# Altium footprint library 2007254-1.PcbLib: 1 footprints
Each footprint in its own frame and in the unit in brackets; x right, y up, seen from the top. Pads: shape width x height; smd on the part's side, far side on the other; paste and mask are expansions set on the pad; w line width, h text height; cw(c..) or ccw(c..) is an arc to the next point about the centre after c.
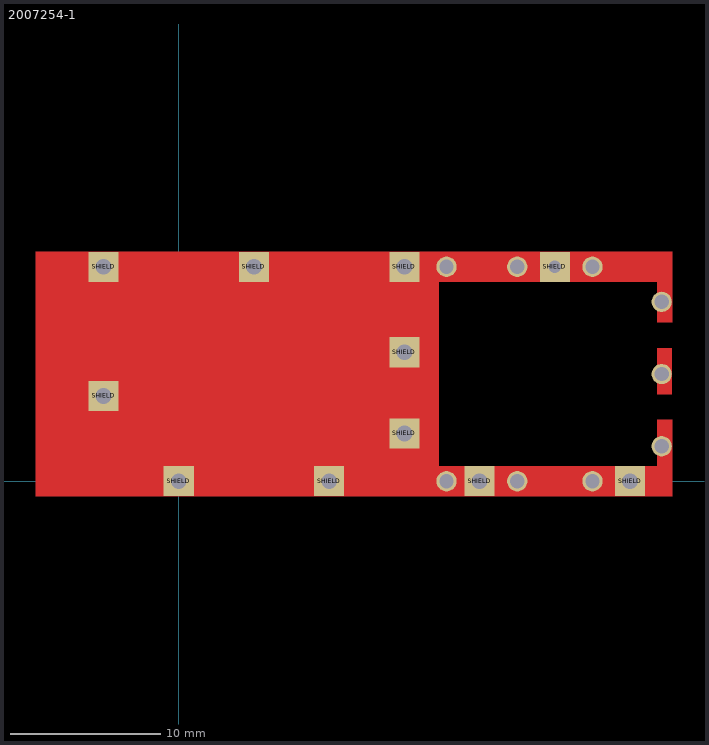
[diagram p0: the footprint, top view; thin cyan lines are the x and y axes]

## 2007254-1 [mm] "1x1 sfp cage with light pipes"
height 10
pads (20):
  rect 2x2 hole 1.05: SHIELD(-5,5.67) SHIELD(-5,14.25) SHIELD(0,0) SHIELD(5,14.25) SHIELD(10,0) SHIELD(15,3.17) SHIELD(15,8.57) SHIELD(15,14.25) SHIELD(20,0) SHIELD(30,0)
  round 1.35 hole 0.95: SHIELD(17.8,0) SHIELD(17.8,14.25) SHIELD(22.5,0) SHIELD(22.5,14.25) SHIELD(27.5,0) SHIELD(27.5,14.25) SHIELD(32.1,2.32) SHIELD(32.1,7.12) SHIELD(32.1,11.92)
  rect 2x2 hole 0.85: SHIELD(25,14.25)
Top Layer:
  rectangle: 31.799,5.77 32.799,8.87
  region: -9.5,15.25 -9.5,-1 32.8,-1 32.8,4.07 31.8,4.07 31.8,1 17.3,1 17.3,13.25 31.8,13.25 31.8,10.57 32.8,10.57 32.8,15.25
3D body "2007254-1.step": height 15.03, standoff -2.98, extent -16.5,-1.023 38.4,15.273